# EAGLE library part SBA23-11 (library display-kingbright)
LED DISPLAY 1-character 7 segment, decimal point right, dual-color
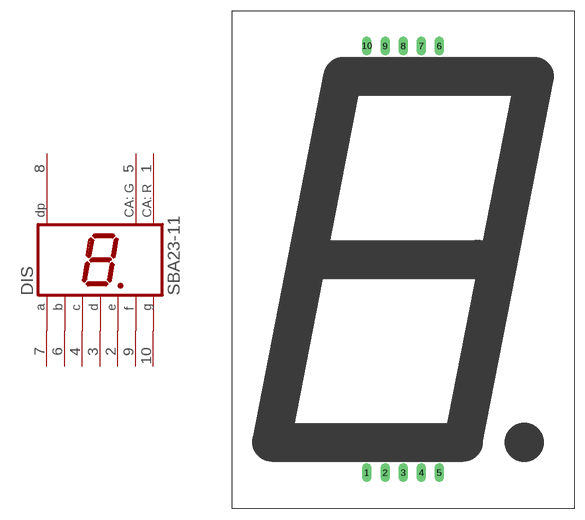
[diagram p4: symbol with the pads of SX23-XX; footprint SX23-XX]

Designator prefix DIS

## SBA23-11  [SX23-XX]
1  CA:R  pas
2  E  pas
3  D  pas
4  C  pas
5  CA:G  pas
6  B  pas
7  A  pas
8  DP  pas
9  F  pas
10  G  pas

## Footprint SX23-XX (pad centres in mm)
LED DISPLAY 57-mm (2.3") 1 character 7 segment, decimal point right
drill 0.813 long: 1 18.923,5.08; 2 21.463,5.08; 3 24.003,5.08; 4 26.543,5.08; 5 29.083,5.08; 6 29.083,65.024; 7 26.543,65.024; 8 24.003,65.024; 9 21.463,65.024; 10 18.923,65.024